# Altium integrated library XBEE_SMT.IntLib: 1 symbol
Pins are listed as number, name and electrical type; pins without a type are passive.

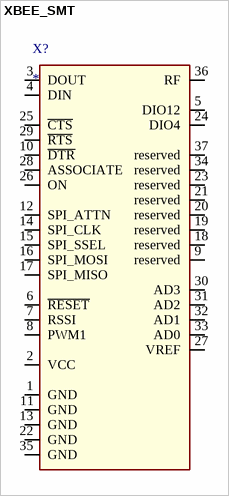
[diagram p0: symbol XBEE_SMT]

## XBEE_SMT
designator X?
ID: XBP24CZ7UIS-004; PDF: http://www.digi.com/pdf/ds_xbeezbsmt.pdf; BUY_LINK: http://www.digikey.com/product-detail/en/XBP24CZ7UIS-004/602-1241-ND/3026313; PRICE: 28.50000
footprint XBEE_SMT
pins: 1 GND, 2 VCC, 3 DOUT, 4 DIN, 5 DIO12, 6 ~{RESET}, 7 RSSI, 8 PWM1, 9 reserved, 10 ~{DTR}, 11 GND, 12 SPI_ATTN, 13 GND, 14 SPI_CLK, 15 SPI_SSEL, 16 SPI_MOSI, 17 SPI_MISO, 18 reserved, 19 reserved, 20 reserved, 21 reserved, 22 GND, 23 reserved, 24 DIO4, 25 ~{CTS}, 26 ON, 27 VREF, 28 ASSOCIATE, 29 ~{RTS}, 30 AD3, 31 AD2, 32 AD1, 33 AD0, 34 reserved, 35 GND, 36 RF, 37 reserved